# Altium schematic symbol library SinglePad.SchLib: 4 symbols
Pins are listed as number, name and electrical type; pins without a type are passive.

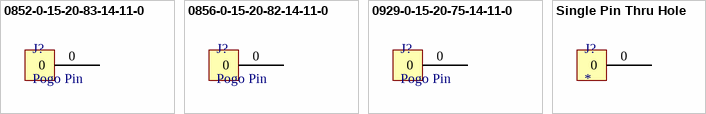
[diagram p0: symbols 0852-0-15-20-83-14-11-0 to Single Pin Thru Hole]

## 0852-0-15-20-83-14-11-0
designator J?, comment Pogo Pin
90 thou stroke
footprint 0852-0
pins: 0

## 0856-0-15-20-82-14-11-0
designator J?, comment Pogo Pin
90 thou stroke
footprint 0856-0
pins: 0

## 0929-0-15-20-75-14-11-0
designator J?, comment Pogo Pin
footprint 0929-0 (340 thou)
footprint 0929-7 (480 thou)
pins: 0

## Single Pin Thru Hole
designator J?
footprint SinglePad
pins: 0